# Altium footprint library JD_RF_Detector.PcbLib: 3 footprints
Each footprint in its own frame and in the unit in brackets; x right, y up, seen from the top. Pads: shape width x height; smd on the part's side, far side on the other; paste and mask are expansions set on the pad; w line width, h text height; cw(c..) or ccw(c..) is an arc to the next point about the centre after c.
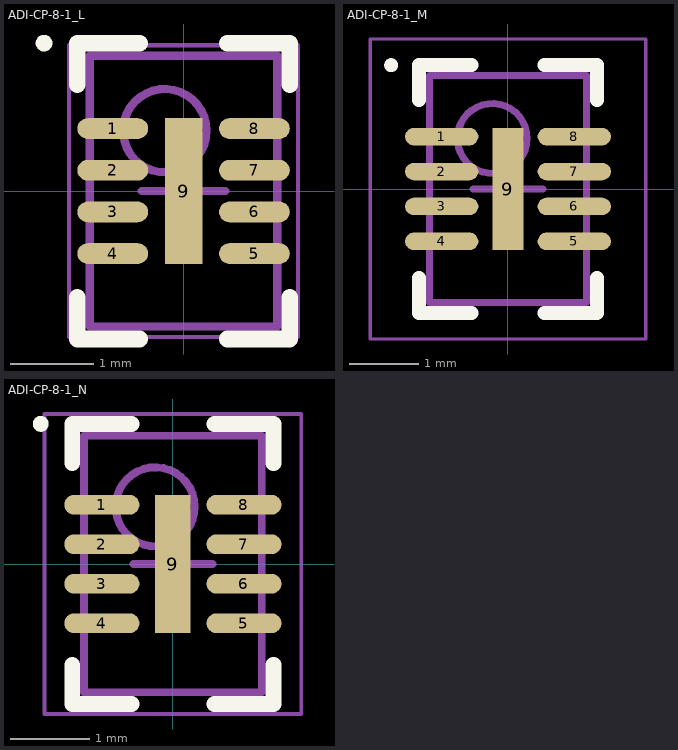
[diagram p0: the footprints below, top view; thin cyan lines are the x and y axes]

## ADI-CP-8-1_L [mm] "SON, 8-Leads, Body 3x2mm, Pitch 0.5mm, Thermal Pad 1.75x0.45mm, IPC High Density"
height 1
pads (9):
  oval 0.85x0.25 smd: 1(-0.85,0.75) 2(-0.85,0.25) 3(-0.85,-0.25) 4(-0.85,-0.75) 5(0.85,-0.75) 6(0.85,-0.25) 7(0.85,0.25) 8(0.85,0.75)
  rect 0.45x1.75 smd: 9(0,0)
Top Overlay:
  circle w0.1: c-1.675,1.775 r0.05
  lines w0.2: -1.275,-1.275 -1.275,-1.775 -0.525,-1.775 ; -1.275,1.275 -1.275,1.775 -0.525,1.775 ; 0.525,-1.775 1.275,-1.775 1.275,-1.275 ; 0.525,1.775 1.275,1.775 1.275,1.275
Mechanical 13:
  circle w0.1: c-0.225,0.725 r0.5
  lines w0.1: -1.125,-1.625 -1.125,1.625 1.125,1.625 1.125,-1.625 -1.125,-1.625
Mechanical 15:
  lines w0.05: -1.375,-1.75 -1.375,1.75 1.375,1.75 1.375,-1.75 -1.375,-1.75
  lines w0.1: -0.5,0 0.5,0 ; 0,-0.5 0,0.5
3D body: height 1, standoff 0, extent -1.125,-1.625 1.125,1.625

## ADI-CP-8-1_M [mm] "SON, 8-Leads, Body 3x2mm, Pitch 0.5mm, Thermal Pad 1.75x0.45mm, IPC Low Density"
height 1
pads (9):
  oval 1.05x0.25 smd: 1(-0.95,0.75) 2(-0.95,0.25) 3(-0.95,-0.25) 4(-0.95,-0.75) 5(0.95,-0.75) 6(0.95,-0.25) 7(0.95,0.25) 8(0.95,0.75)
  rect 0.45x1.75 smd: 9(0,0)
Top Overlay:
  circle w0.1: c-1.675,1.775 r0.05
  lines w0.2: -1.275,-1.275 -1.275,-1.775 -0.525,-1.775 ; -1.275,1.275 -1.275,1.775 -0.525,1.775 ; 0.525,-1.775 1.275,-1.775 1.275,-1.275 ; 0.525,1.775 1.275,1.775 1.275,1.275
Mechanical 13:
  circle w0.1: c-0.225,0.725 r0.5
  lines w0.1: -1.125,-1.625 1.125,-1.625 1.125,1.625 -1.125,1.625 -1.125,-1.625
Mechanical 15:
  lines w0.05: -1.975,-2.15 1.975,-2.15 1.975,2.15 -1.975,2.15 -1.975,-2.15
  lines w0.1: -0.5,0 0.5,0 ; 0,-0.5 0,0.5
3D body: height 1, standoff 0, extent -1.125,-1.625 1.125,1.625

## ADI-CP-8-1_N [mm] "SON, 8-Leads, Body 3x2mm, Pitch 0.5mm, Thermal Pad 1.75x0.45mm, IPC Medium Density"
height 1
pads (9):
  oval 0.95x0.25 smd: 1(-0.9,0.75) 2(-0.9,0.25) 3(-0.9,-0.25) 4(-0.9,-0.75) 5(0.9,-0.75) 6(0.9,-0.25) 7(0.9,0.25) 8(0.9,0.75)
  rect 0.45x1.75 smd: 9(0,0)
Top Overlay:
  circle w0.1: c-1.675,1.775 r0.05
  lines w0.2: -1.275,-1.275 -1.275,-1.775 -0.525,-1.775 ; -1.275,1.275 -1.275,1.775 -0.525,1.775 ; 0.525,-1.775 1.275,-1.775 1.275,-1.275 ; 0.525,1.775 1.275,1.775 1.275,1.275
Mechanical 13:
  circle w0.1: c-0.225,0.725 r0.5
  lines w0.1: -1.125,-1.625 1.125,-1.625 1.125,1.625 -1.125,1.625 -1.125,-1.625
Mechanical 15:
  lines w0.05: -1.625,-1.9 1.625,-1.9 1.625,1.9 -1.625,1.9 -1.625,-1.9
  lines w0.1: -0.5,0 0.5,0 ; 0,-0.5 0,0.5
3D body: height 1, standoff 0, extent -1.125,-1.625 1.125,1.625